# Altium footprint library General Components.PcbLib: 16 footprints
Each footprint in its own frame and in the unit in brackets; x right, y up, seen from the top. Pads: shape width x height; smd on the part's side, far side on the other; paste and mask are expansions set on the pad; w line width, h text height; cw(c..) or ccw(c..) is an arc to the next point about the centre after c.
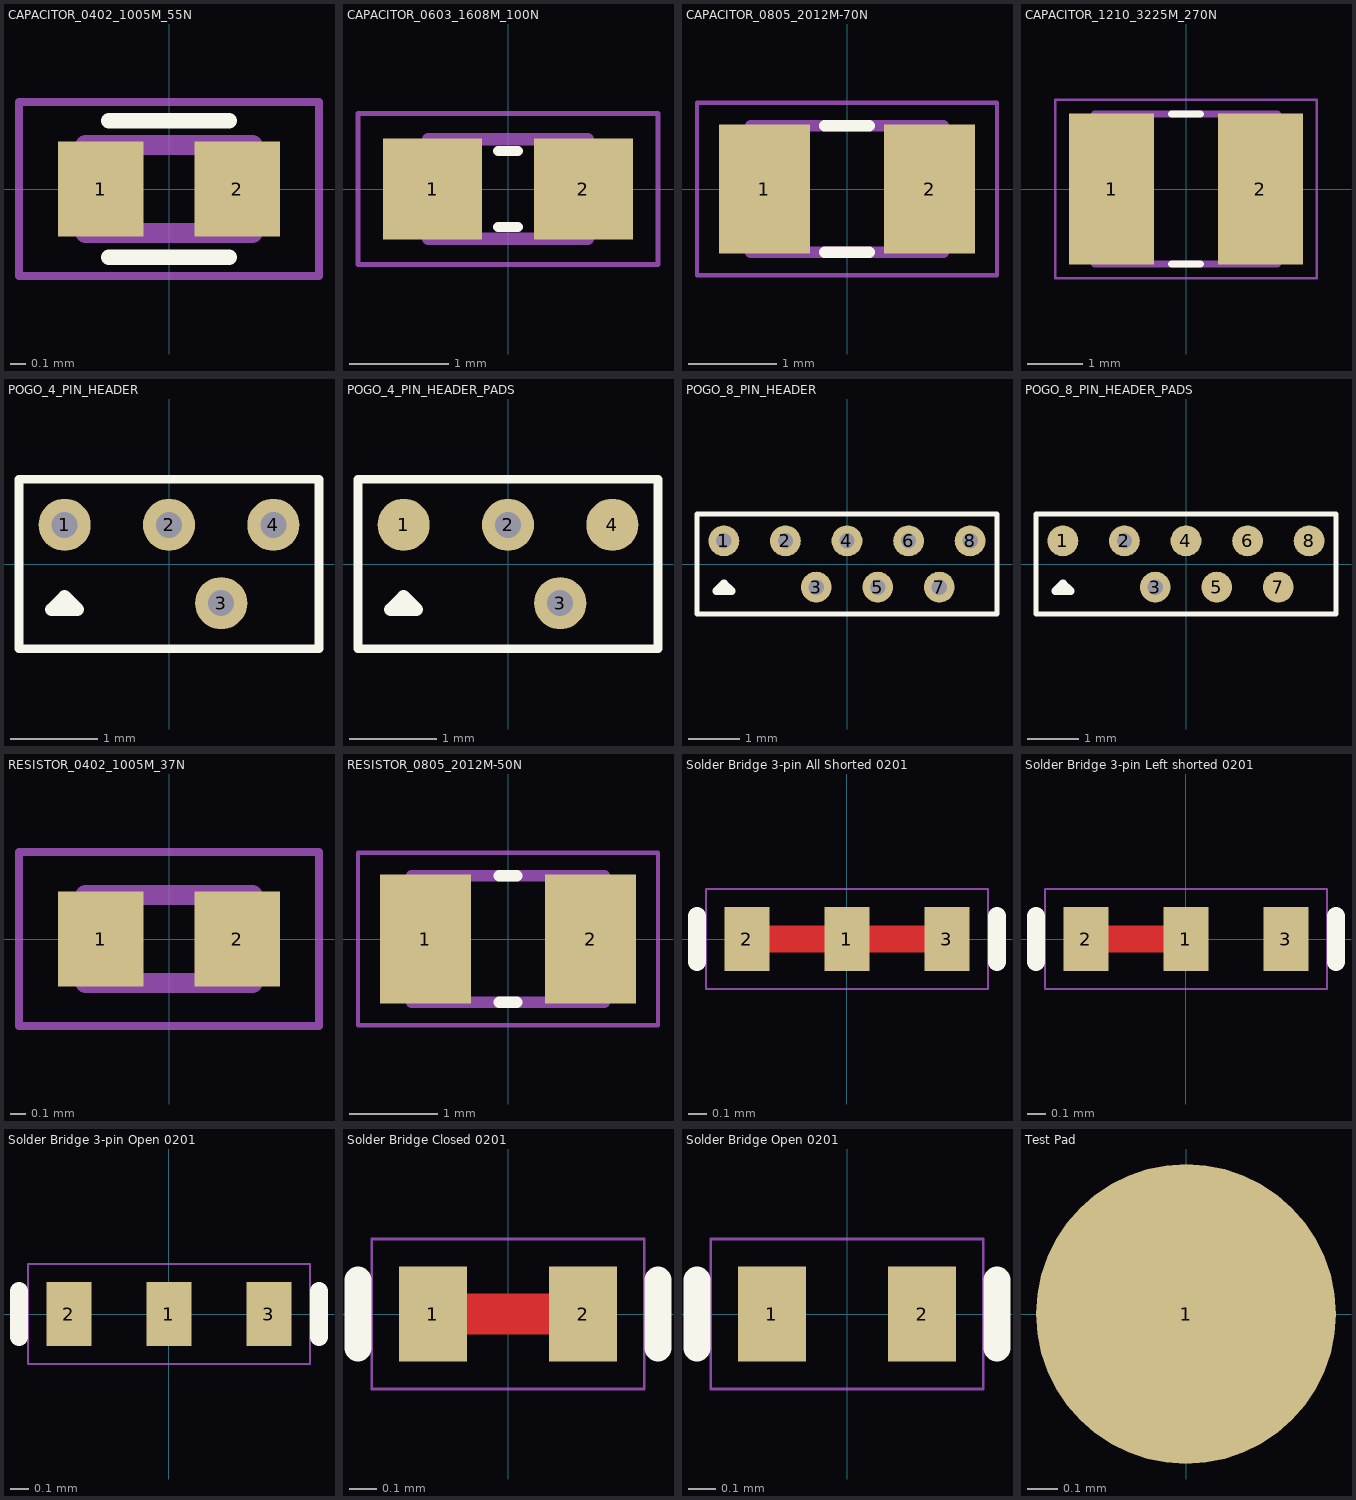
[diagram p0: the footprints below, top view; thin cyan lines are the x and y axes]

## CAPACITOR_0402_1005M_55N [mm] "Capacitor, 0402 (1005 metric), 0.55mm height, nominal pads"
height 0.55
pads (2):
  rect 0.54x0.6 smd mask+0.051: 1(-0.432,0) 2(0.432,0)
Top Overlay:
  lines w0.1: -0.381,-0.432 0.381,-0.432 ; -0.381,0.432 0.381,0.432
Mechanical 13:
  lines w0.127: -0.53,-0.28 -0.53,0.28 0.53,0.28 0.53,-0.28 -0.53,-0.28
Mechanical 15:
  lines w0.05: -0.95,-0.55 -0.95,0.55 0.95,0.55 0.95,-0.55 -0.95,-0.55
3D body "GCM1555C1H102FA16D.step": height 0.48, standoff -0.02, extent -0.5,-0.279 0.5,0.271

## CAPACITOR_0603_1608M_100N [mm] "Capacitor, 0603 (1608 metric), 1mm high, nominal pads"
height 1
pads (2):
  rect 1x1.02 smd mask+0.051: 1(-0.759,0) 2(0.759,0)
Top Overlay:
  lines w0.1: -0.102,-0.381 0.102,-0.381 ; -0.102,0.381 0.102,0.381
Mechanical 13:
  lines w0.127: -0.8,-0.5 -0.8,0.5 0.8,0.5 0.8,-0.5 -0.8,-0.5
Mechanical 15:
  lines w0.05: -1.508,-0.758 -1.508,0.758 1.508,0.758 1.508,-0.758 -1.508,-0.758
3D body "GRM188Z71A106KA73D.step": height 0.78, standoff -0.02, extent -0.8,-0.5 0.8,0.5

## CAPACITOR_0805_2012M-70N [mm] "Capacitor, 0805 (2012 metric), 0.7mm high, nominal pads,"
height 0.5
pads (2):
  rect 1.04x1.47 smd mask+0.051: 1(-0.94,0) 2(0.94,0)
Top Overlay:
  lines w0.127: -0.254,-0.72 0.254,-0.72 ; -0.254,0.72 0.254,0.72
Mechanical 13:
  lines w0.127: -1.1,-0.72 1.1,-0.72 1.1,0.72 -1.1,0.72 -1.1,-0.72
Mechanical 15:
  lines w0.05: -1.708,-0.983 1.708,-0.983 1.708,0.983 -1.708,0.983 -1.708,-0.983
3D body "GCM2165C2A122JA16J.STEP": height 1.23, standoff -0.02, extent -1,-0.725 1,0.725

## CAPACITOR_1210_3225M_270N [mm] "Capacitor, 1210 (3225 metric), 2.7mm high, nominal pads"
height 2.7
pads (2):
  rect 1.53x2.72 smd: 1(-1.341,0) 2(1.341,0)
Top Overlay:
  lines w0.127: -0.26,-1.35 0.26,-1.35 ; -0.26,1.35 0.26,1.35
Mechanical 13:
  lines w0.127: -1.651,-1.35 1.651,-1.35 1.651,1.35 -1.651,1.35 -1.651,-1.35
Mechanical 15:
  lines w0.05: -2.355,-1.608 2.355,-1.608 2.355,1.608 -2.355,1.608 -2.355,-1.608
3D body "GRM32ER61A107ME20L.step": height 2.48, standoff -0.02, extent -1.6,-1.397 1.6,1.303

## POGO_4_PIN_HEADER [mm] "4-pin header for pogo pins"
pads (4):
  round 0.6 hole 0.3 mask+0.051: 1(-1.2,0.45) 2(0,0.45) 3(0.6,-0.45) 4(1.2,0.45)
Top Overlay:
  lines w0.1: -1.725,-0.975 1.725,-0.975 1.725,0.975 -1.725,0.975 -1.725,-0.975
  lines w0.15: -1.35,-0.525 -1.05,-0.525 -1.2,-0.375 -1.35,-0.525
Mechanical 15:
  lines w0.05: -1.725,-0.975 -1.725,0.975 1.725,0.975 1.725,-0.975 -1.725,-0.975

## POGO_4_PIN_HEADER_PADS [mm] "4-pin header for pogo pins. Two locating vias, the rest are pads"
pads (4):
  round 0.6 smd mask+0.051: 1(-1.2,0.45) 4(1.2,0.45)
  round 0.6 hole 0.3 mask+0.051: 2(0,0.45) 3(0.6,-0.45)
Top Overlay:
  lines w0.1: -1.725,-0.975 1.725,-0.975 1.725,0.975 -1.725,0.975 -1.725,-0.975
  lines w0.15: -1.35,-0.525 -1.05,-0.525 -1.2,-0.375 -1.35,-0.525
Mechanical 15:
  lines w0.05: -1.725,-0.975 -1.725,0.975 1.725,0.975 1.725,-0.975 -1.725,-0.975

## POGO_8_PIN_HEADER [mm] "8-pin header for pogo pins"
pads (8):
  round 0.6 hole 0.3 mask+0.051: 1(-2.4,0.45) 2(-1.2,0.45) 3(-0.6,-0.45) 4(0,0.45) 5(0.6,-0.45) 6(1.2,0.45) 7(1.8,-0.45) 8(2.4,0.45)
Top Overlay:
  lines w0.1: -2.925,-0.975 -2.925,0.975 2.925,0.975 2.925,-0.975 -2.925,-0.975
  lines w0.15: -2.55,-0.525 -2.4,-0.375 -2.25,-0.525 -2.55,-0.525
Mechanical 15:
  lines w0.05: -2.925,-0.975 -2.925,0.975 2.925,0.975 2.925,-0.975 -2.925,-0.975

## POGO_8_PIN_HEADER_PADS [mm] "8-pin header for pogo pins. Two locating vias, the rest are pads"
pads (8):
  round 0.6 smd mask+0.051: 1(-2.4,0.45) 4(0,0.45) 5(0.6,-0.45) 6(1.2,0.45) 7(1.8,-0.45) 8(2.4,0.45)
  round 0.6 hole 0.3 mask+0.051: 2(-1.2,0.45) 3(-0.6,-0.45)
Top Overlay:
  lines w0.1: -2.925,-0.975 -2.925,0.975 2.925,0.975 2.925,-0.975 -2.925,-0.975
  lines w0.15: -2.55,-0.525 -2.4,-0.375 -2.25,-0.525 -2.55,-0.525
Mechanical 15:
  lines w0.05: -2.925,-0.975 -2.925,0.975 2.925,0.975 2.925,-0.975 -2.925,-0.975

## RESISTOR_0402_1005M_37N [mm] "Resistor, 0402 (1005 metric), 0.37mm height, nominal pads"
height 0.37
pads (2):
  rect 0.54x0.6 smd mask+0.051: 1(-0.432,0) 2(0.432,0)
Mechanical 13:
  lines w0.127: -0.53,-0.28 -0.53,0.28 0.53,0.28 0.53,-0.28 -0.53,-0.28
Mechanical 15:
  lines w0.05: -0.95,-0.55 -0.95,0.55 0.95,0.55 0.95,-0.55 -0.95,-0.55
3D body "RE0402BRE07560KL.step": height 0.37, standoff 0, extent -0.5,-0.25 0.5,0.25

## RESISTOR_0805_2012M-50N [mm] "Resistor, 0805 (2012 metric), nominal pads"
height 0.5
pads (2):
  rect 1.04x1.47 smd mask+0.051: 1(-0.94,0) 2(0.94,0)
Top Overlay:
  lines w0.127: -0.1,-0.72 0.1,-0.72 ; -0.1,0.72 0.1,0.72
Mechanical 13:
  lines w0.127: -1.1,-0.72 -1.1,0.72 1.1,0.72 1.1,-0.72 -1.1,-0.72
Mechanical 15:
  lines w0.05: -1.708,-0.983 -1.708,0.983 1.708,0.983 1.708,-0.983 -1.708,-0.983
3D body "RG2012P-103-D-T5.step": height 0.5, standoff 0, extent -1,-0.625 1,0.625

## Solder Bridge 3-pin All Shorted 0201 [mm]
pads (3):
  rect 0.25x0.35 smd paste-100 mask+0: 1(0,0) 2(-0.55,0) 3(0.55,0)
Top Layer:
  lines w0.15: -0.5,0 -0.05,0 ; 0.05,0 0.5,0
Top Overlay:
  lines w0.1: -0.825,-0.125 -0.825,0.125 ; 0.825,-0.125 0.825,0.125
Top Solder:
  rectangle: -0.55,-0.175 0,0.175
  rectangle: 0,-0.175 0.55,0.175
Mechanical 13:
  lines w0.01: -0.775,-0.275 0.775,-0.275 0.775,0.275 -0.775,0.275 -0.775,-0.275

## Solder Bridge 3-pin Left shorted 0201 [mm]
pads (3):
  rect 0.25x0.35 smd paste-100 mask+0: 1(0,0) 2(-0.55,0) 3(0.55,0)
Top Layer:
  lines w0.15: -0.475,0 -0.05,0
Top Overlay:
  lines w0.1: -0.825,-0.125 -0.825,0.125 ; 0.825,-0.125 0.825,0.125
Top Solder:
  rectangle: -0.55,-0.175 0,0.175
  rectangle: 0,-0.175 0.55,0.175
Mechanical 13:
  lines w0.01: -0.775,-0.275 0.775,-0.275 0.775,0.275 -0.775,0.275 -0.775,-0.275

## Solder Bridge 3-pin Open 0201 [mm]
pads (3):
  rect 0.25x0.35 smd paste-100 mask+0: 1(0,0) 2(-0.55,0) 3(0.55,0)
Top Overlay:
  lines w0.1: -0.825,-0.125 -0.825,0.125 ; 0.825,-0.125 0.825,0.125
Top Solder:
  rectangle: -0.55,-0.175 0,0.175
  rectangle: 0,-0.175 0.55,0.175
Mechanical 13:
  lines w0.01: -0.775,-0.275 -0.775,0.275 0.775,0.275 0.775,-0.275 -0.775,-0.275

## Solder Bridge Closed 0201 [mm]
pads (2):
  rect 0.25x0.35 smd paste-100 mask+0: 1(-0.275,0) 2(0.275,0)
Top Layer:
  lines w0.15: -0.225,0 0.225,0
Top Overlay:
  lines w0.1: -0.55,-0.125 -0.55,0.125 ; 0.55,-0.125 0.55,0.125
Top Solder:
  rectangle: -0.275,-0.175 0.275,0.175
Mechanical 13:
  lines w0.01: -0.5,-0.275 0.5,-0.275 0.5,0.275 -0.5,0.275 -0.5,-0.275

## Solder Bridge Open 0201 [mm]
pads (2):
  rect 0.25x0.35 smd paste-100 mask+0: 1(-0.275,0) 2(0.275,0)
Top Overlay:
  lines w0.1: -0.55,-0.125 -0.55,0.125 ; 0.55,-0.125 0.55,0.125
Top Solder:
  rectangle: -0.275,-0.175 0.275,0.175
Mechanical 13:
  lines w0.01: -0.5,-0.275 -0.5,0.275 0.5,0.275 0.5,-0.275 -0.5,-0.275

## Test Pad [mm] "Exposed copper pad"
pads (1):
  round 1 smd: 1(0,0)